# Altium footprint library PLCC2350B.PcbLib: 2 footprints
Each footprint in its own frame and in the unit in brackets; x right, y up, seen from the top. Pads: shape width x height; smd on the part's side, far side on the other; paste and mask are expansions set on the pad; w line width, h text height; cw(c..) or ccw(c..) is an arc to the next point about the centre after c.
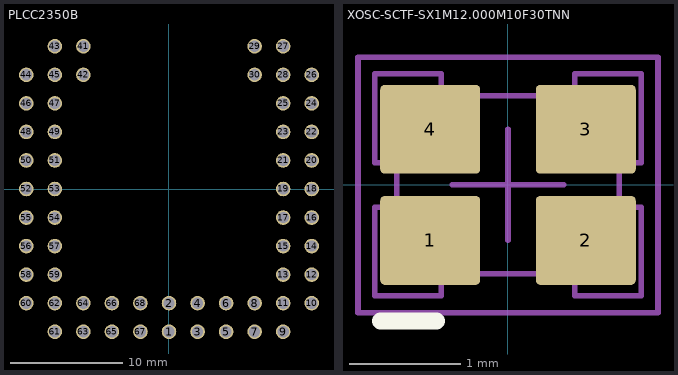
[diagram p0: the footprints below, top view; thin cyan lines are the x and y axes]

## PLCC2350B [mm]
pads (58):
  round 1.3 hole 1: 1(0,-12.7) 2(0,-10.16) 3(2.54,-12.7) 4(2.54,-10.16) 5(5.08,-12.7) 6(5.08,-10.16) 7(7.62,-12.7) 8(7.62,-10.16) 9(10.16,-12.7) 10(12.7,-10.16) 11(10.16,-10.16) 12(12.7,-7.62) 13(10.16,-7.62) 14(12.7,-5.08) 15(10.16,-5.08) 16(12.7,-2.54) 17(10.16,-2.54) 18(12.7,0) 19(10.16,0) 20(12.7,2.54) 21(10.16,2.54) 22(12.7,5.08) 23(10.16,5.08) 24(12.7,7.62) 25(10.16,7.62) 26(12.7,10.16) 27(10.16,12.7) 28(10.16,10.16) 29(7.62,12.7) 30(7.62,10.16) 41(-7.62,12.7) 42(-7.62,10.16) 43(-10.16,12.7) 44(-12.7,10.16) 45(-10.16,10.16) 46(-12.7,7.62) 47(-10.16,7.62) 48(-12.7,5.08) 49(-10.16,5.08) 50(-12.7,2.54) 51(-10.16,2.54) 52(-12.7,0) 53(-10.16,0) 54(-10.16,-2.54) 55(-12.7,-2.54) 56(-12.7,-5.08) 57(-10.16,-5.08) 58(-12.7,-7.62) 59(-10.16,-7.62) 60(-12.7,-10.16) 61(-10.16,-12.7) 62(-10.16,-10.16) 63(-7.62,-12.7) 64(-7.62,-10.16) 65(-5.08,-12.7) 66(-5.08,-10.16) 67(-2.54,-12.7) 68(-2.54,-10.16)

## XOSC-SCTF-SX1M12.000M10F30TNN [mm]
pads (4):
  rrect10% 0.9x0.8 smd paste+0 mask+0.05: 1(-0.7,-0.5) 2(0.7,-0.5) 3(0.7,0.5) 4(-0.7,0.5)
Top Overlay:
  lines w0.15: -1.15,-1.225 -0.642,-1.225
Top Courtyard:
  lines w0.05: -0.5,0 0,0 ; 0,-0.5 0,0 ; 0,0.5 0,0 ; 0.5,0 0,0 ; -1.35,-1.15 1.35,-1.15 1.35,1.15 -1.35,1.15 -1.35,-1.15
Top Assembly:
  lines w0.05: -1,-0.275 -1,0.8 -0.025,0.8 1,0.8 1,-0.8 -0.6,-0.8 ; -1.2,-1 -0.6,-1 -0.6,-0.2 -0.9,-0.2 -1.2,-0.2 -1.2,-1 ; -1.2,0.2 -0.6,0.2 -0.6,1 -0.9,1 -1.2,1 -1.2,0.2 ; 0.6,-1 1.2,-1 1.2,-0.2 0.9,-0.2 0.6,-0.2 0.6,-1 ; 0.6,0.2 1.2,0.2 1.2,1 0.9,1 0.6,1 0.6,0.2
  text "1" at -1.2,-1 h1
3D body "MC2016Z.stp": height 0.76, standoff 0.01, extent -1,-0.8 1,0.8